# EAGLE library part BQ25883RGER (library Artemis)
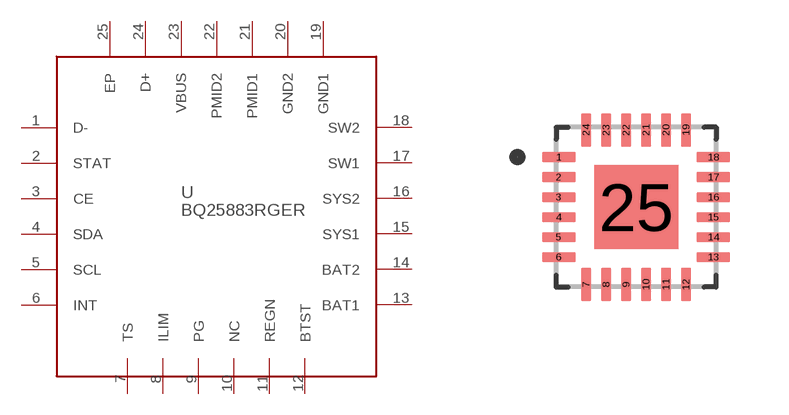
[diagram p7: symbol with the pads of QFN50P400X400X100-25N; footprint QFN50P400X400X100-25N]

Designator prefix -

## BQ25883RGER  [QFN50P400X400X100-25N]
1  D-
2  STAT
3  CE
4  SDA
5  SCL
6  INT
7  TS
8  ILIM
9  PG
10  NC
11  REGN
12  BTST
13  BAT1
14  BAT2
15  SYS1
16  SYS2
17  SW1
18  SW2
19  GND1
20  GND2
21  PMID1
22  PMID2
23  VBUS
24  D+
25  EP

## Footprint QFN50P400X400X100-25N (pad centres in mm)
smd 0.84 x 0.26: 1 -1.935,1.25; 2 -1.935,0.75; 3 -1.935,0.25; 4 -1.935,-0.25; 5 -1.935,-0.75; 6 -1.935,-1.25; 13 1.935,-1.25; 14 1.935,-0.75; 15 1.935,-0.25; 16 1.935,0.25; 17 1.935,0.75; 18 1.935,1.25
smd 0.26 x 0.84: 7 -1.25,-1.935; 8 -0.75,-1.935; 9 -0.25,-1.935; 10 0.25,-1.935; 11 0.75,-1.935; 12 1.25,-1.935; 19 1.25,1.935; 20 0.75,1.935; 21 0.25,1.935; 22 -0.25,1.935; 23 -0.75,1.935; 24 -1.25,1.935
smd 2.1 x 2.1: 25 0,0